# Altium schematic symbol library diode_5.Schlib: 1 symbol
Pins are listed as number, name and electrical type; pins without a type are passive.

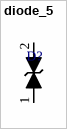
[diagram p0: symbol diode_5]

## diode_5
designator D?  (value not drawn)
TVS Diode, Bidirectional
pins: 1, 2